# Altium schematic symbol library SCH - POWER - LINEAR VREG - TI TLV76012DBZ.SchLib: 1 symbol
Pins are listed as number, name and electrical type; pins without a type are passive.

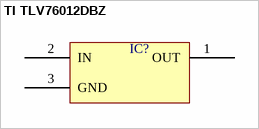
[diagram p0: symbol TI TLV76012DBZ]

## TI TLV76012DBZ
designator IC?  (value not drawn)
pins: 1 OUT, 2 IN, 3 GND